# Altium footprint library TC2030-MCP.PcbLib: 1 footprints
Each footprint in its own frame and in the unit in brackets; x right, y up, seen from the top. Pads: shape width x height; smd on the part's side, far side on the other; paste and mask are expansions set on the pad; w line width, h text height; cw(c..) or ccw(c..) is an arc to the next point about the centre after c.
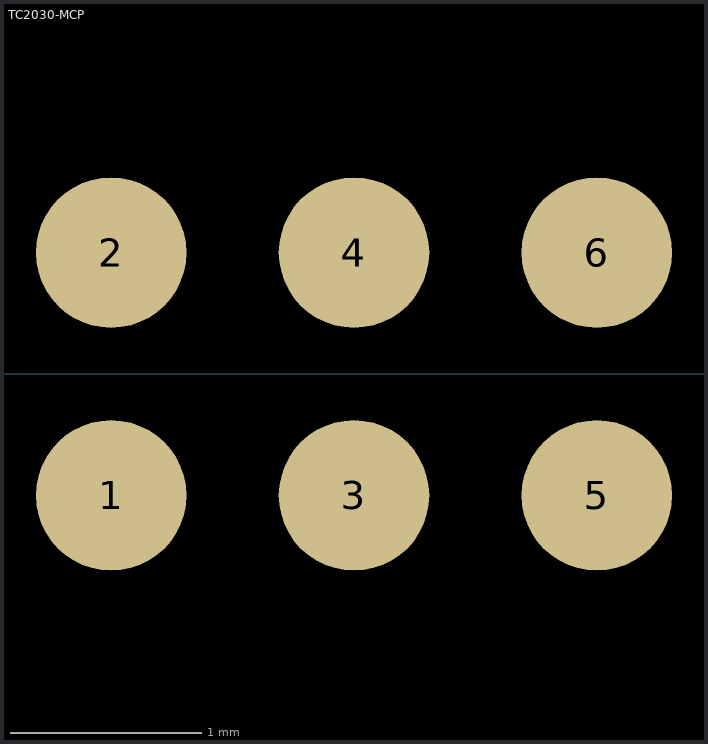
[diagram p0: the footprint, top view; thin cyan lines are the x and y axes]

## TC2030-MCP [mil]
pads (6):
  round 31 smd paste-100 mask+0: 1(50,-25) 2(50,25) 3(100,-25) 4(100,25) 5(150,-25) 6(150,25)
via 0,0 diameter 39 hole 39
via 200,-40 diameter 39 hole 39
via 200,40 diameter 39 hole 39